# Altium schematic symbol library Tăng ap.SchLib: 1 symbol
Pins are listed as number, name and electrical type; pins without a type are passive.

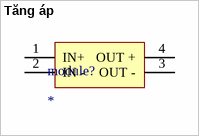
[diagram p0: symbol Tăng áp]

## Tăng áp
designator module?
footprint Tang ap
pins: 1 IN+, 2 IN -, 3 OUT -, 4 OUT +